# EAGLE library part XS1-L01A-TQ128 (library xmos)
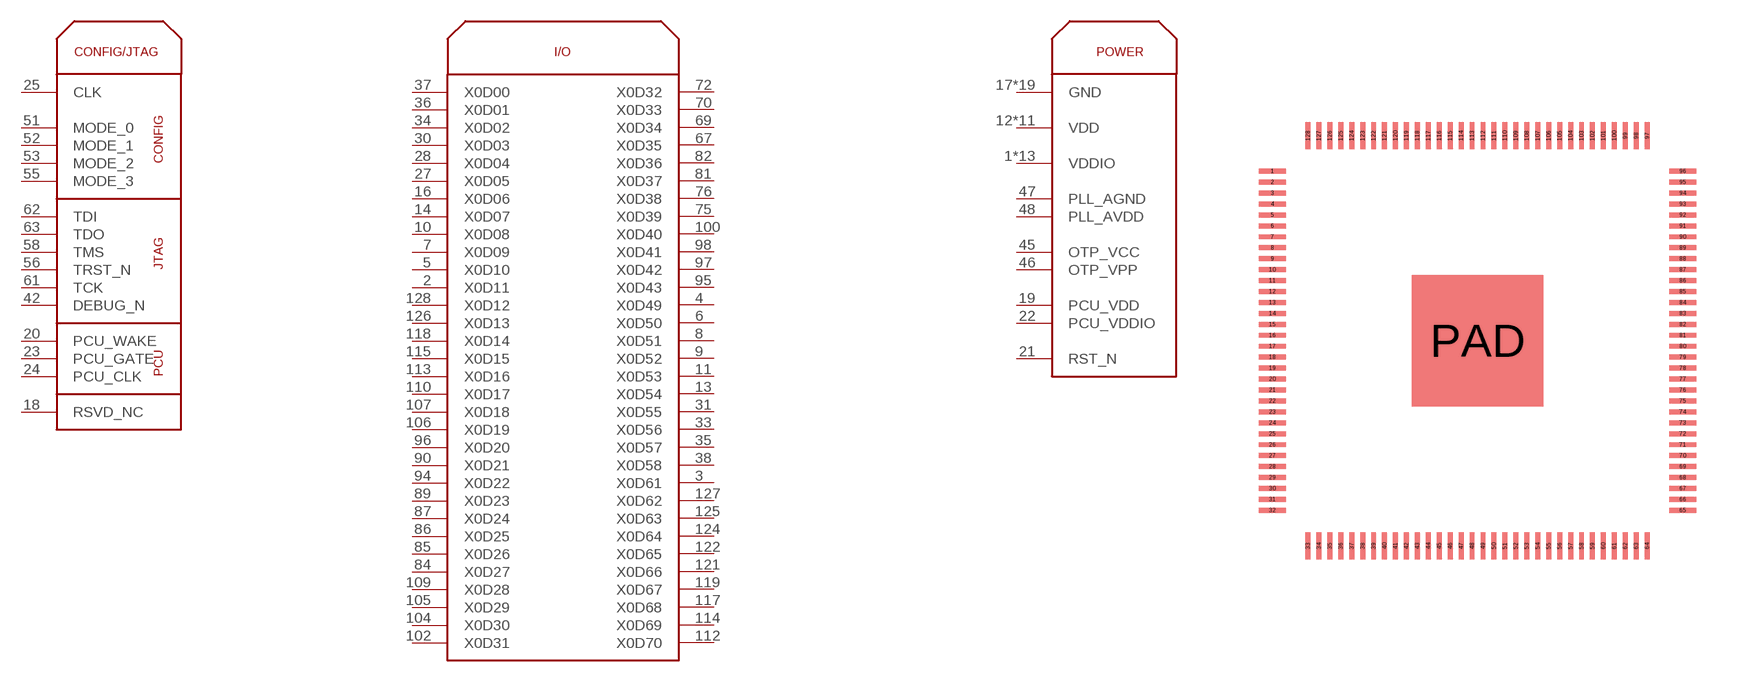
[diagram p3: symbol with the pads of TQFP128; footprint TQFP128]

Designator prefix -; gates G$1=XS1-L01A-TQ128_CONFIG/JTAG G$2=XS1-L01A-TQ128_I/O G$3=XS1-L01A-TQ128_POWER

## XS1-L01A-TQ128  [TQFP128]
1  G$3:VDDIO
2  G$2:X0D11
3  G$2:X0D61
4  G$2:X0D49
5  G$2:X0D10
6  G$2:X0D50
7  G$2:X0D09
8  G$2:X0D51
9  G$2:X0D52
10  G$2:X0D08
11  G$2:X0D53
12  G$3:VDD
13  G$2:X0D54
14  G$2:X0D07
15  G$3:VDDIO
16  G$2:X0D06
17  G$3:GND
18  G$1:RSVD_NC
19  G$3:PCU_VDD
20  G$1:PCU_WAKE
21  G$3:RST_N
22  G$3:PCU_VDDIO
23  G$1:PCU_GATE
24  G$1:PCU_CLK
25  G$1:CLK
26  G$3:VDDIO
27  G$2:X0D05
28  G$2:X0D04
29  G$3:VDD
30  G$2:X0D03
31  G$2:X0D55
32  G$3:VDDIO
33  G$2:X0D56
34  G$2:X0D02
35  G$2:X0D57
36  G$2:X0D01
37  G$2:X0D00
38  G$2:X0D58
39  G$3:GND
40  G$3:GND
41  G$3:GND
42  G$1:DEBUG_N
43  G$3:GND
44  G$3:VDDIO
45  G$3:OTP_VCC
46  G$3:OTP_VPP
47  G$3:PLL_AGND
48  G$3:PLL_AVDD
49  G$3:VDD
50  G$3:VDDIO
51  G$1:MODE_0
52  G$1:MODE_1
53  G$1:MODE_2
54  G$3:GND
55  G$1:MODE_3
56  G$1:TRST_N
57  G$3:GND
58  G$1:TMS
59  G$3:VDD
60  G$3:GND
61  G$1:TCK
62  G$1:TDI
63  G$1:TDO
64  G$3:VDDIO
65  G$3:GND
66  G$3:GND
67  G$2:X0D35
68  G$3:VDD
69  G$2:X0D34
70  G$2:X0D33
71  G$3:GND
72  G$2:X0D32
73  G$3:VDDIO
74  G$3:VDD
75  G$2:X0D39
76  G$2:X0D38
77  G$3:VDD
78  G$3:GND
79  G$3:VDDIO
80  G$3:GND
81  G$2:X0D37
82  G$2:X0D36
83  G$3:VDD
84  G$2:X0D27
85  G$2:X0D26
86  G$2:X0D25
87  G$2:X0D24
88  G$3:GND
89  G$2:X0D23
90  G$2:X0D21
91  G$3:GND
92  G$3:GND
93  G$3:VDDIO
94  G$2:X0D22
95  G$2:X0D43
96  G$2:X0D20
97  G$2:X0D42
98  G$2:X0D41
99  G$3:GND
100  G$2:X0D40
101  G$3:VDD
102  G$2:X0D31
103  G$3:VDDIO
104  G$2:X0D30
105  G$2:X0D29
106  G$2:X0D19
107  G$2:X0D18
108  G$3:VDD
109  G$2:X0D28
110  G$2:X0D17
111  G$3:VDDIO
112  G$2:X0D70
113  G$2:X0D16
114  G$2:X0D69
115  G$2:X0D15
116  G$3:GND
117  G$2:X0D68
118  G$2:X0D14
119  G$2:X0D67
120  G$3:VDDIO
121  G$2:X0D66
122  G$2:X0D65
123  G$3:VDD
124  G$2:X0D64
125  G$2:X0D63
126  G$2:X0D13
127  G$2:X0D62
128  G$2:X0D12
PAD  G$3:GND

## Footprint TQFP128 (pad centres in mm)
smd 1 x 0.18: 1 -7.5,6.2; 2 -7.5,5.8; 3 -7.5,5.4; 4 -7.5,5; 5 -7.5,4.6; 6 -7.5,4.2; 7 -7.5,3.8; 8 -7.5,3.4; 9 -7.5,3; 10 -7.5,2.6; 11 -7.5,2.2; 12 -7.5,1.8; 13 -7.5,1.4; 14 -7.5,1; 15 -7.5,0.6; 16 -7.5,0.2; 17 -7.5,-0.2; 18 -7.5,-0.6; 19 -7.5,-1; 20 -7.5,-1.4; 21 -7.5,-1.8; 22 -7.5,-2.2; 23 -7.5,-2.6; 24 -7.5,-3; 25 -7.5,-3.4; 26 -7.5,-3.8; 27 -7.5,-4.2; 28 -7.5,-4.6; 29 -7.5,-5; 30 -7.5,-5.4; 31 -7.5,-5.8; 32 -7.5,-6.2; 65 7.5,-6.2; 66 7.5,-5.8; 67 7.5,-5.4; 68 7.5,-5; 69 7.5,-4.6; 70 7.5,-4.2; 71 7.5,-3.8; 72 7.5,-3.4; 73 7.5,-3; 74 7.5,-2.6; 75 7.5,-2.2; 76 7.5,-1.8; 77 7.5,-1.4; 78 7.5,-1; 79 7.5,-0.6; 80 7.5,-0.2; 81 7.5,0.2; 82 7.5,0.6; 83 7.5,1; 84 7.5,1.4; 85 7.5,1.8; 86 7.5,2.2; 87 7.5,2.6; 88 7.5,3; 89 7.5,3.4; 90 7.5,3.8; 91 7.5,4.2; 92 7.5,4.6; 93 7.5,5; 94 7.5,5.4; 95 7.5,5.8; 96 7.5,6.2
smd 0.18 x 1: 33 -6.2,-7.5; 34 -5.8,-7.5; 35 -5.4,-7.5; 36 -5,-7.5; 37 -4.6,-7.5; 38 -4.2,-7.5; 39 -3.8,-7.5; 40 -3.4,-7.5; 41 -3,-7.5; 42 -2.6,-7.5; 43 -2.2,-7.5; 44 -1.8,-7.5; 45 -1.4,-7.5; 46 -1,-7.5; 47 -0.6,-7.5; 48 -0.2,-7.5; 49 0.2,-7.5; 50 0.6,-7.5; 51 1,-7.5; 52 1.4,-7.5; 53 1.8,-7.5; 54 2.2,-7.5; 55 2.6,-7.5; 56 3,-7.5; 57 3.4,-7.5; 58 3.8,-7.5; 59 4.2,-7.5; 60 4.6,-7.5; 61 5,-7.5; 62 5.4,-7.5; 63 5.8,-7.5; 64 6.2,-7.5; 97 6.2,7.5; 98 5.8,7.5; 99 5.4,7.5; 100 5,7.5; 101 4.6,7.5; 102 4.2,7.5; 103 3.8,7.5; 104 3.4,7.5; 105 3,7.5; 106 2.6,7.5; 107 2.2,7.5; 108 1.8,7.5; 109 1.4,7.5; 110 1,7.5; 111 0.6,7.5; 112 0.2,7.5; 113 -0.2,7.5; 114 -0.6,7.5; 115 -1,7.5; 116 -1.4,7.5; 117 -1.8,7.5; 118 -2.2,7.5; 119 -2.6,7.5; 120 -3,7.5; 121 -3.4,7.5; 122 -3.8,7.5; 123 -4.2,7.5; 124 -4.6,7.5; 125 -5,7.5; 126 -5.4,7.5; 127 -5.8,7.5; 128 -6.2,7.5
smd 4.8 x 4.8: PAD 0,0